# Altium schematic symbol library ACS756-CA_PFF.SchLib: 1 symbol
Pins are listed as number, name and electrical type; pins without a type are passive.

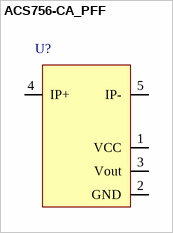
[diagram p0: symbol ACS756-CA_PFF]

## ACS756-CA_PFF
designator U?  (value not drawn)
pins: 1 VCC, 2 GND, 3 Vout, 4 IP+, 5 IP-